# EAGLE library part AXN430330 (library zz-m-pad-2.1)
Matsushita P8 NARROW-PITCH CONNECTORS FOR PC BOARDS 30Pin Header NARROW-PITCH (0.8mm) CONNECTORS P8 SERIES FEATURES The product lineup consists of the low profile of: - 3 mm - 3.5 mm - 4 mm - 4.5 mm - 5 mm - 5.5 mm - 6 mm - 7 mm - 8 mm - 11.5 mm - 13 mm - 14 mm APPLICATIONS Small portable equipment, laptop computers, video equipment, radio communication, cellular telephones, etc. Please send any comments to: messi@users.sourceforge.net
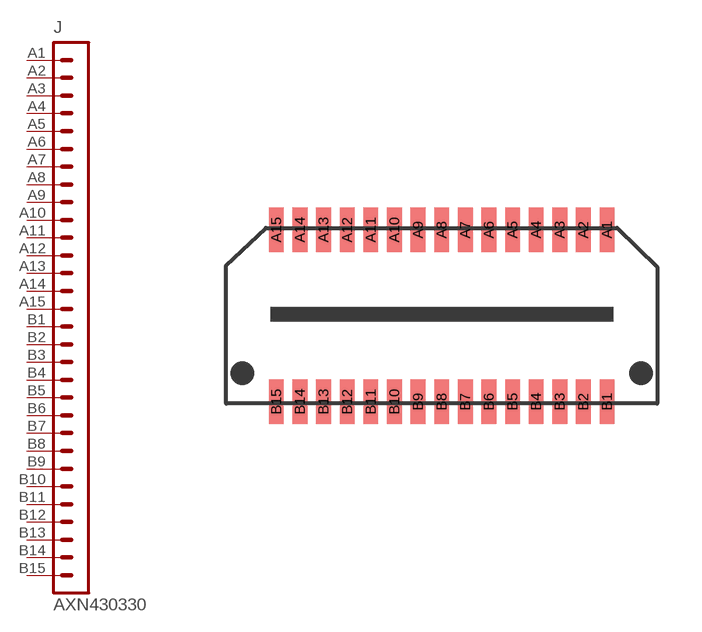
[diagram p8: symbol with the pads of AXN430X30S; footprint AXN430X30S]

Designator prefix J

## AXN430330  [AXN430X30S]
A1  1  pas
A2  2  pas
A3  3  pas
A4  4  pas
A5  5  pas
A6  6  pas
A7  7  pas
A8  8  pas
A9  9  pas
A10  10  pas
A11  11  pas
A12  12  pas
A13  13  pas
A14  14  pas
A15  15  pas
B1  16  pas
B2  17  pas
B3  18  pas
B4  19  pas
B5  20  pas
B6  21  pas
B7  22  pas
B8  23  pas
B9  24  pas
B10  25  pas
B11  26  pas
B12  27  pas
B13  28  pas
B14  29  pas
B15  30  pas

## Footprint AXN430X30S (pad centres in mm)
Matsushita NARROW-PITCH CONNECTORS FOR PC BOARDS 30Pin Header NARROW-PITCH (0.8mm) CONNECTORS P8 SERIES FEATURES The product lineup consists of the low profile of: - 3 mm - 3.5 mm - 4 mm - 4.5 mm - 5 mm - 5.5 mm - 6 mm - 7 mm - 8 mm - 11.5 mm - 13 mm - 14 mm APPLICATIONS Small portable equipment, laptop computers, video equipment, radio communication, cellular telephones, etc. Please send any comments to: messi@users.sourceforge.net
smd 0.5 x 1.5: A1 5.59,2.91; A2 4.79,2.91; A3 3.99,2.91; A4 3.19,2.91; A5 2.39,2.91; A6 1.59,2.91; A7 0.79,2.91; A8 -0.01,2.91; A9 -0.81,2.91; A10 -1.61,2.91; A11 -2.41,2.91; A12 -3.21,2.91; A13 -4.01,2.91; A14 -4.81,2.91; A15 -5.61,2.91; B1 5.59,-2.91; B2 4.79,-2.91; B3 3.99,-2.91; B4 3.19,-2.91; B5 2.39,-2.91; B6 1.59,-2.91; B7 0.79,-2.91; B8 -0.01,-2.91; B9 -0.81,-2.91; B10 -1.61,-2.91; B11 -2.41,-2.91; B12 -3.21,-2.91; B13 -4.01,-2.91; B14 -4.81,-2.91; B15 -5.61,-2.91